# Altium schematic symbol library PicoLED.SchLib: 1 symbol
Pins are listed as number, name and electrical type; pins without a type are passive.

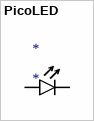
[diagram p0: symbol PicoLED]

## PicoLED
designator *
footprint DFN70P60X45-2N (DFN, 2-Leads, Body 1.00x0.60mm, Pitch 0.70mm, IPC Medium Density)
pins: 1, 2